# Altium footprint library Ind_Vishay_IHLP2020CZER3R3M01_eec_MFG.PcbLib: 1 footprints
Each footprint in its own frame and in the unit in brackets; x right, y up, seen from the top. Pads: shape width x height; smd on the part's side, far side on the other; paste and mask are expansions set on the pad; w line width, h text height; cw(c..) or ccw(c..) is an arc to the next point about the centre after c.
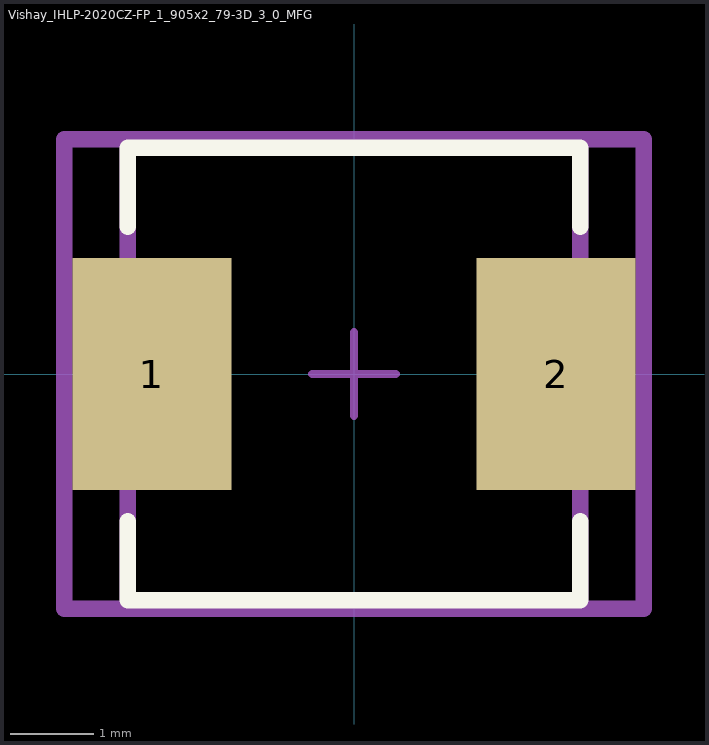
[diagram p0: the footprint, top view; thin cyan lines are the x and y axes]

## Vishay_IHLP-2020CZ-FP_1_905x2_79-3D_3_0_MFG [mm]
pads (2):
  rect 1.905x2.79 smd paste+0 mask+0: 1(-2.425,0) 2(2.425,0)
Top Overlay:
  lines w0.2: -2.717,-1.77 -2.717,-2.717 2.717,-2.717 2.717,-1.77 ; -2.717,1.77 -2.717,2.717 2.717,2.717 2.717,1.77
Mechanical 10:
  lines w0.2: -3.478,-2.817 3.478,-2.817 3.478,2.817 -3.478,2.817 -3.478,-2.817
  text ".Designator" at 0,0.188 h1
Mechanical 12:
  lines w0.2: -2.717,-2.717 2.717,-2.717 2.717,2.717 -2.717,2.717 -2.717,-2.717
Mechanical 15:
  lines w0.1: -0.5,0 0.5,0 ; 0,-0.5 0,0.5
  lines w0.2: -3.478,-2.817 3.478,-2.817 3.478,2.817 -3.478,2.817 -3.478,-2.817
3D body "Ind_Vishay_IHLP2020CZER3R3M01_eec.STEP": height 0.25, standoff 0, extent -3.478,-2.817 3.478,2.817